# EAGLE library part TRANSISTOR-NPN-DUAL (library Skoba)
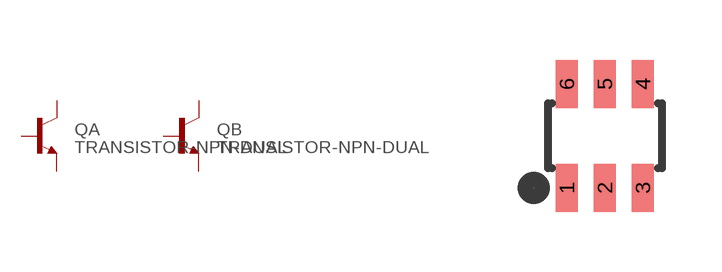
[diagram p26: symbol with the pads of SOT23-6; footprint SOT23-6]

Designator prefix Q; gates A=NPN B=NPN

## TRANSISTOR-NPN-DUALSOT23-6  [SOT23-6]
1  A:E  pas
2  A:B  pas
3  B:C  pas
4  B:E  pas
5  B:B  pas
6  A:C  pas

## Footprint SOT23-6 (pad centres in mm)
smd 0.55 x 1.2: 1 -0.95,-1.3; 2 0,-1.3; 3 0.95,-1.3; 4 0.95,1.3; 5 0,1.3; 6 -0.95,1.3